# EAGLE library part 1X8 (library .headers(.05in))
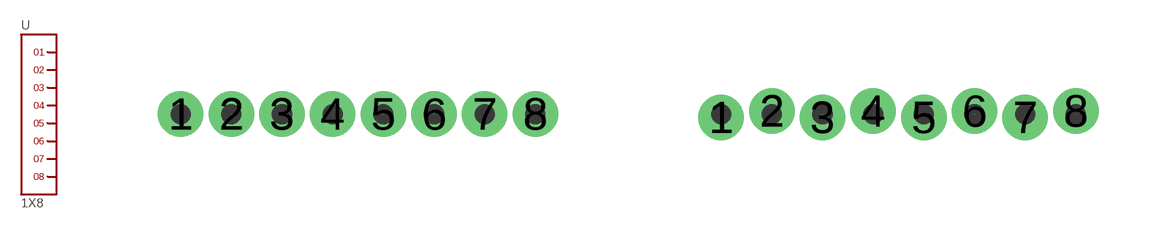
[diagram p2: symbol with the pads of 1X8; footprints 1X8, 1X8.LOCK]

Designator prefix -

## 1X8  [1X8]
1  1
2  2
3  3
4  4
5  5
6  6
7  7
8  8

## 1X8.LOCK  [1X8.LOCK]
Pads as for 1X8

## 1X8.SIDE  [1X8.SIDE]
Pads as for 1X8

## Footprint 1X8 (pad centres in mm)
drill 0.635 pad 1.016: 1 0,0; 2 1.27,0; 3 2.54,0; 4 3.81,0; 5 5.08,0; 6 6.35,0; 7 7.62,0; 8 8.89,0

## Footprint 1X8.LOCK (pad centres in mm)
drill 0.635 pad 1.016: 1 0,-0.08; 2 1.27,0.08; 3 2.54,-0.08; 4 3.81,0.08; 5 5.08,-0.08; 6 6.35,0.08; 7 7.62,-0.08; 8 8.89,0.08

## Footprint 1X8.SIDE (pad centres in mm)
smd 1.905 x 2.54: 1 0,-2.159; 2 2.54,-2.159; 3 5.08,-2.159; 4 7.62,-2.159; 5 10.16,-2.159; 6 12.7,-2.159; 7 15.24,-2.159; 8 17.78,-2.159